# Altium integrated library cp2102_usbC.IntLib: 6 symbols
Pins are listed as number, name and electrical type; pins without a type are passive.

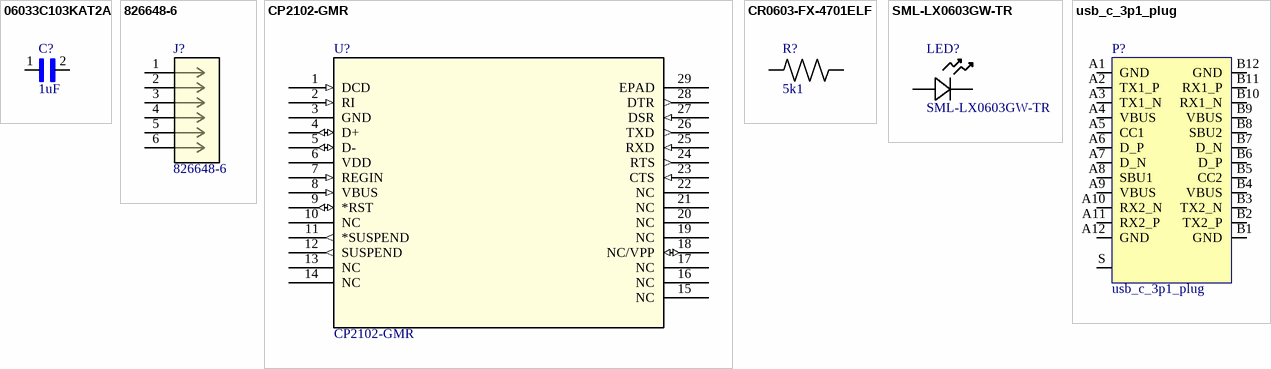
[diagram p0: symbols 06033C103KAT2A to usb_c_3p1_plug]

## 06033C103KAT2A
designator C?, comment 1uF
0603 10 nF 25 V 10% Tolerance X7R Surface Mount Multilayer Ceramic Capacitor; MP: 06033C103KAT2A; MF: AVX; Package: 1608 AVX; Price: None; Availability: Unavailable; SnapEDA_Link: https://www.snapeda.com/parts/06033C103KAT2A/AVX%20/%20Kyocera/view-part/?ref=snap; Value: *
footprint *CAPC1608X90N
pins: 1, 2

## 826648-6
designator J?
6P AMPMODU II STIFT LEI; Built_By: EMA_Justin; Vendor: TE Connectivity; ROWS/CONFIG: 1; PITCH(MM): 2.54; POSITIONS: 6; SourceLibrary: TE_Connectivity_250_Part_Delivery_4_2018-09-04; Copyright: Copyright (C) 2016 Accelerated Designs. All rights reserved; Manufacturer_Part_Number: 826648-6; TE_Part_Number: 826648-6; PRODUCT: Connector; Type: DEV; Datasheet: https://www.te.com/commerce/DocumentDelivery/DDEController?Action=showdoc&DocId=Customer+Drawing%7F826629%7FAC%7Fpdf%7FEnglish%7FENG_CD_826629_AC.pdf%7F826648-6; RefDes: RefDes
footprint CONN6_826648-6_TEC
pins: 1, 2, 3, 4, 5, 6

## CP2102-GMR
designator U?
No Description Available; Vendor: Silicon Labs; Built_By: EMA_UL_Team; SourceLibrary: Silicon_Labs_2018-12-15; Manufacturer_Part_Number: CP2102-GMR; Copyright: Copyright (C) 2018 Accelerated Designs. All rights reserved; RefDes: RefDes; Type: DEV
footprint QFN28_5X5_SIL
pins: 1 DCD (in), 2 RI (in), 3 GND (power), 4 D+ (io), 5 D- (io), 6 VDD (power), 7 REGIN (in), 8 VBUS (in), 9 *RST (io), 10 NC, 11 *SUSPEND (out), 12 SUSPEND (out), 13 NC, 14 NC, 15 NC, 16 NC, 17 NC, 18 NC/VPP (io), 19 NC, 20 NC, 21 NC, 22 NC, 23 CTS (in), 24 RTS (out), 25 RXD (in), 26 TXD (out), 27 DSR (in), 28 DTR (out), 29 EPAD

## CR0603-FX-4701ELF
designator R?, comment 5k1
Res Thick Film 0603 4.7K Ohm 1% 1/10W 100ppm/C Molded SMD SMD Paper Tape on Plastic Reel; MP: CR0603-FX-4701ELF; MF: Bourns; Package: 1608 Rohm Semiconductor; Price: None; SnapEDA_Link: https://www.snapeda.com/parts/CR0603-FX-4701ELF/Bourns/view-part/?ref=snap; Availability: Unavailable; Value: *
footprint *RESC1608X55N
pins: 1, 2

## SML-LX0603GW-TR
designator LED?
No Description Available; Vendor: Lumex; Built_By: EMA_Cory; SourceLibrary: Lumex_2020-09-08; Type: DEV; Datasheet: https://www.lumex.com/spec/SML-LX0603GW-TR.pdf; Manufacturer_Part_Number: SML-LX0603GW-TR; Copyright: Copyright (C) 2018 Accelerated Designs. All rights reserved; RefDes: RefDes
footprint LED_SML-LX0603GW-TR_LUM
pins: 1, 2

## usb_c_3p1_plug
designator P?
footprint PCBComponent_1
pins: A1 GND (power), A2 TX1_P (power), A3 TX1_N, A4 VBUS, A5 CC1, A6 D_P, A7 D_N, A8 SBU1, A9 VBUS, A10 RX2_N, A11 RX2_P, A12 GND (power), B1 GND, B2 TX2_P, B3 TX2_N, B4 VBUS, B5 CC2, B6 D_P, B7 D_N, B8 SBU2, B9 VBUS, B10 RX1_N, B11 RX1_P, B12 GND (power), S SHIELD